# EAGLE library part ELM325?(V1.0) (library Elm Electronics)
ELM325 - J1708 Interpreter (v1.0) based on Microchip Technology Inc.'s PIC16F1823 (www.microchip.com) This protocol converter integrated circuit is for use with heavy duty vehicles that use the SAE J1708 standard with J1587 or J1922. Although these protocols are being phased out (they’re being replaced by SAE J1939), there are still a very large number of vehicles that use them. More info on Elm Electronics Inc. <www.elmelectronics.com>.
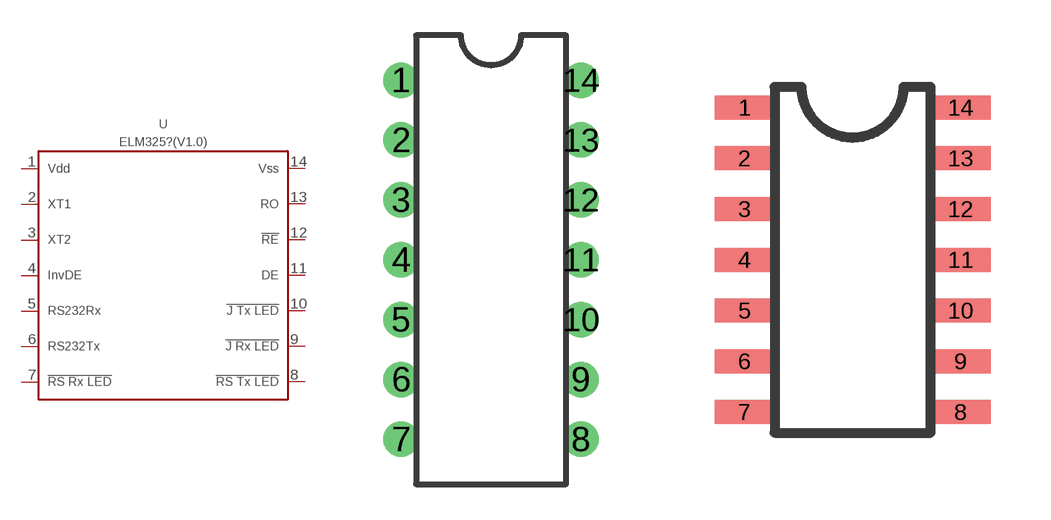
[diagram p7: symbol with the pads of PDIP(14); footprints PDIP(14), SOIC(14)]

Designator prefix U

## ELM325P(V1.0)  [PDIP(14)]
1  VDD
2  XT1
3  XT2
4  INVDE
5  RS232RX
6  RS232TX
7  !RSRXLED
8  !RSTXLED
9  !JRXLED
10  !JTXLED
11  DE
12  !RE
13  RO
14  VSS

## ELM325SM(V1.0)  [SOIC(14)]
Pads as for PDIP(14)

## Footprint PDIP(14) (pad centres in mm)
14-Lead Plastic Dual In-Line (P) - 300 mil Body [PDIP]
drill 1 pad 1.5: 1 -3.81,7.62; 2 -3.81,5.08; 3 -3.81,2.54; 4 -3.81,0; 5 -3.81,-2.54; 6 -3.81,-5.08; 7 -3.81,-7.62; 8 3.81,-7.62; 9 3.81,-5.08; 10 3.81,-2.54; 11 3.81,0; 12 3.81,2.54; 13 3.81,5.08; 14 3.81,7.62

## Footprint SOIC(14) (pad centres in mm)
14-Lead Plastic Small Outline (SL) - Narrow, 3.90 mm Body [SOIC]
smd 1.5 x 0.6: 1 -2.7,3.81; 2 -2.7,2.54; 3 -2.7,1.27; 4 -2.7,0; 5 -2.7,-1.27; 6 -2.7,-2.54; 7 -2.7,-3.81; 8 2.7,-3.81; 9 2.7,-2.54; 10 2.7,-1.27; 11 2.7,0; 12 2.7,1.27; 13 2.7,2.54; 14 2.7,3.81